# EAGLE library part SENSOR_MPU9250 (library akita)
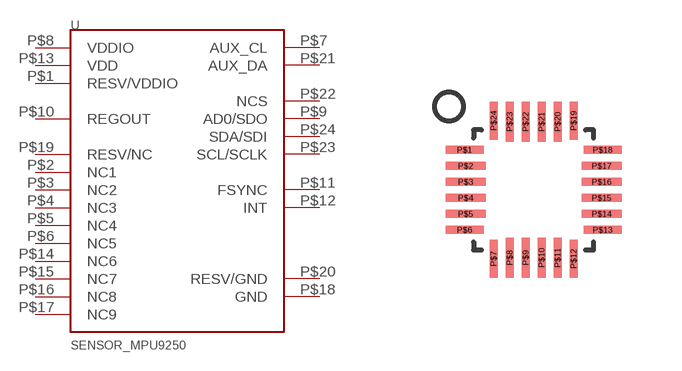
[diagram p63: symbol with the pads of QFN24_04MM; footprint QFN24_04MM]

Designator prefix U

## SENSOR_MPU9250  [QFN24_04MM]
P$1  RESV/VDDIO
P$2  NC1
P$3  NC2
P$4  NC3
P$5  NC4
P$6  NC5
P$7  AUX_CL
P$8  VDDIO
P$9  AD0/SDO
P$10  REGOUT
P$11  FSYNC
P$12  INT
P$13  VDD
P$14  NC6
P$15  NC7
P$16  NC8
P$17  NC9
P$18  GND
P$19  RESV/NC
P$20  RESV/GND
P$21  AUX_DA
P$22  NCS
P$23  SCL/SCLK
P$24  SDA/SDI

## Footprint QFN24_04MM (pad centres in mm)
smd 0.95 x 0.2: P$1 -1.725,1; P$6 -1.725,-1; P$13 1.725,-1; P$18 1.725,1
smd 1 x 0.2: P$2 -1.7,0.6; P$3 -1.7,0.2; P$4 -1.7,-0.2; P$5 -1.7,-0.6; P$14 1.7,-0.6; P$15 1.7,-0.2; P$16 1.7,0.2; P$17 1.7,0.6
smd 0.2 x 0.95: P$7 -1,-1.725; P$12 1,-1.725; P$19 1,1.725; P$24 -1,1.725
smd 0.2 x 1: P$8 -0.6,-1.7; P$9 -0.2,-1.7; P$10 0.2,-1.7; P$11 0.6,-1.7; P$20 0.6,1.7; P$21 0.2,1.7; P$22 -0.2,1.7; P$23 -0.6,1.7